# Altium footprint library 曾宪阳PCB库.PcbLib: 142 footprints (part 2 of 9)
Each footprint in its own frame and in the unit in brackets; x right, y up, seen from the top. Pads: shape width x height; smd on the part's side, far side on the other; paste and mask are expansions set on the pad; w line width, h text height; cw(c..) or ccw(c..) is an arc to the next point about the centre after c.
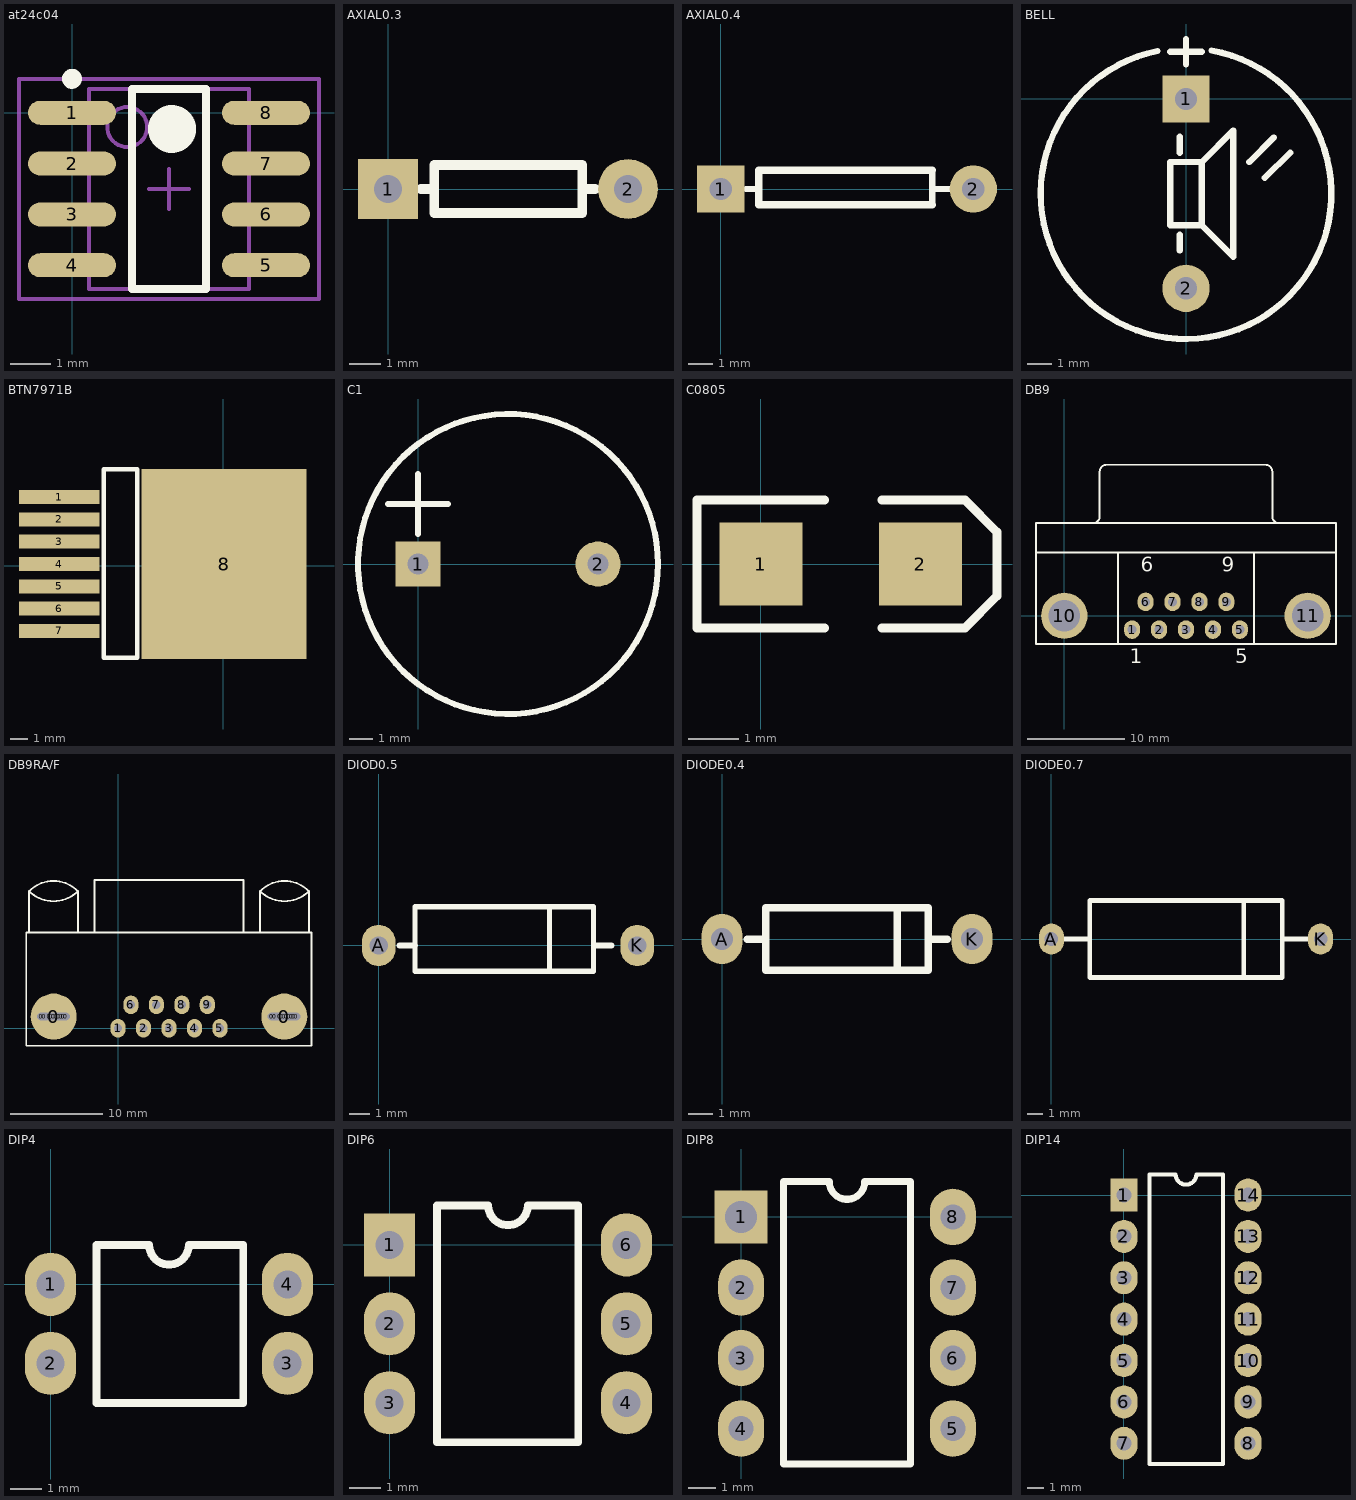
[diagram p1: the footprints below, top view; thin cyan lines are the x and y axes]

## at24c04 [mm] "SOP, 8-Leads, Body 5.0x4.0mm (max), Pitch 1.27mm, IPC Medium Density"
height 1.75
pads (8):
  oval 2.2x0.6 smd: 1(0,0) 2(0,-1.27) 3(0,-2.54) 4(0,-3.81) 5(4.85,-3.81) 6(4.85,-2.54) 7(4.85,-1.27) 8(4.85,0)
Top Overlay:
  circle w0.25: c0,0.85 r0.125
  circle w0.6: c2.5,-0.405 r0.3
  lines w0.2: 1.5,-4.405 1.5,0.595 3.35,0.595 3.35,-4.405 1.5,-4.405
Mechanical 13:
  circle w0.1: c1.38,-0.355 r0.5
  lines w0.1: 0.43,-4.405 0.43,0.595 4.42,0.595 4.42,-4.405 0.43,-4.405
Mechanical 15:
  lines w0.1: 1.925,-1.905 2.925,-1.905 ; 2.425,-2.405 2.425,-1.405 ; -1.325,-4.655 -1.325,0.845 6.175,0.845 6.175,-4.655 -1.325,-4.655
3D body: height 1.75, standoff 0.1, extent 0.43,-4.405 4.42,0.595

## AXIAL0.3 [mm]
pads (2):
  rect 1.905x1.905 hole 0.9: 1(0,0)
  round 1.905 hole 0.9: 2(7.62,0)
Top Overlay:
  lines w0.305: 1.041,0 1.27,0 ; 6.198,0 6.172,0.025 6.172,0.762 1.473,0.762 1.473,-0.762 6.172,-0.762 6.172,0 6.579,0

## AXIAL0.4 [mm]
pads (2):
  rect 1.905x1.905 hole 0.9: 1(0,0)
  round 1.905 hole 0.9: 2(10.16,0)
Top Overlay:
  lines w0.254: 1.016,0 1.524,0 ; 8.509,-0.635 8.509,0.762 ; 8.509,0 9.271,0
  lines w0.305: 8.509,-0.635 1.524,-0.635 1.524,0.762 8.509,0.762

## BELL [mm]
pads (2):
  rect 1.905x1.905 hole 0.9: 1(0,0)
  round 1.905 hole 0.9: 2(0,-7.62)
Top Overlay:
  lines w0.254: -1.147,1.926 ccw(c0,-3.81) 1.024,1.95 ; -0.635,1.905 0.635,1.905 ; -0.254,-6.096 -0.254,-5.461 ; -0.254,-2.159 -0.254,-1.524 ; 0,1.397 0,2.413 ; 2.54,-2.54 3.531,-1.549 ; 3.175,-3.175 4.191,-2.159 ; 0.635,-5.08 -0.635,-5.08 -0.635,-2.54 0.635,-2.54 ; 0.635,-5.08 0.635,-2.54 ; 0.635,-5.08 1.905,-6.35 1.905,-1.27 0.635,-2.54

## BTN7971B [mm] "驱动芯片"
pads (8):
  rect 4.6x0.8 smd: 1(-9.34,3.9) 2(-9.34,2.63) 3(-9.34,1.36) 4(-9.34,0.09) 5(-9.34,-1.18) 6(-9.34,-2.45) 7(-9.34,-3.72)
  rect 9.4x10.8 smd: 8(0.05,0.09)
Top Overlay:
  lines w0.254: -6.8,-5.26 -4.9,-5.26 -4.9,5.49 -6.8,5.49 -6.8,-5.26

## C1 [mm]
pads (2):
  rect 1.905x1.905 hole 0.9: 1(0,0)
  round 1.905 hole 0.9: 2(7.62,0)
Top Overlay:
  circle w0.254: c3.81,0 r6.35
  lines w0.254: -1.27,2.54 1.27,2.54 ; 0,1.27 0,3.81

## C0805 [mil]
height 53.15
pads (2):
  rect 65x65 smd: 1(0,0) 2(125,0)
Top Overlay:
  lines w7: 50,-50 -50,-50 -50,50 50,50 ; 95,-50 160,-50 185,-25 185,25 160,50 95,50

## DB9 [mm]
pads (11):
  oval 1.651x1.905 hole 0.9: 1(6.955,-1.42) 2(9.725,-1.42) 3(12.495,-1.42) 4(15.265,-1.42) 5(18.035,-1.42) 6(8.34,1.42) 7(11.11,1.42) 8(13.88,1.42) 9(16.65,1.42)
  round 4.76 hole 3.26: 10(0,0) 11(24.99,0)
Top Overlay:
  lines w0.2: -2.905,6.5 27.895,6.5 ; 2.935,9.505 ccw(c2.935,10.2) 3.63,10.2 3.63,14.8 ; 3.635,14.805 cw(c4.33,14.805) 4.33,15.5 20.66,15.5 cw(c20.66,14.805) 21.355,14.805 ; 5.495,-2.9 5.495,6.5 ; 19.495,-2.9 19.495,6.5 ; 21.36,14.8 21.36,10.2 ccw(c22.055,10.2) 22.055,9.505 ; -2.905,-2.9 27.895,-2.9 27.895,9.5 -2.905,9.5 -2.905,-2.9
  text "6" at 7.84,4.525 h1.5
  text "9" at 16.15,4.525 h1.5
  text "5" at 17.535,-4.875 h1.5
  text "1" at 6.705,-4.875 h1.5

## DB9RA/F [mm]
pads (33):
  round 0.9 hole 0.9: 0(-8.335,1.27) 0(-8.035,1.27) 0(-7.485,1.27) 0(-7.235,1.27) 0(-6.985,1.27) 0(-6.735,1.27) 0(-6.435,1.27) 0(-6.185,1.27) 0(-5.935,1.27) 0(-5.685,1.27) 0(16.709,1.27) 0(17.009,1.27) 0(17.559,1.27) 0(17.809,1.27) 0(18.059,1.27) 0(18.309,1.27) 0(18.609,1.27) 0(18.859,1.27) 0(19.109,1.27) 0(19.359,1.27) 14(-7.785,1.27) 14(17.259,1.27)
  round 5 hole 0.9: 0(-6.985,1.27) 0(18.059,1.27)
  oval 1.651x2.032 hole 0.9: 1(0,0) 2(2.769,0) 3(5.537,0) 4(8.306,0) 5(11.074,0) 6(1.397,2.54) 7(4.166,2.54) 8(6.934,2.54) 9(9.703,2.54)
Top Overlay:
  lines w0.2: -9.963,-1.905 -9.963,10.395 21.037,10.395 ; -9.66,10.395 -9.66,14.895 ; -4.36,10.395 -4.36,14.895 ; -2.56,10.395 -2.56,16.095 13.64,16.095 13.64,10.395 ; 15.434,10.395 15.434,14.895 ; 20.734,10.395 20.734,14.895 ; -9.66,14.895 ccw(c-7.01,17.545) -4.36,14.895 ; -9.66,14.895 cw(c-7.01,12.245) -4.36,14.895 ; 15.434,14.895 ccw(c18.084,17.545) 20.734,14.895 ; 15.434,14.895 cw(c18.084,12.245) 20.734,14.895
  lines w0.203: -9.963,-1.905 21.037,-1.905 21.037,10.395

## DIOD0.5 [mil]
pads (2):
  oval 65x80 hole 35.43: A(0,0) K(500,0)
Top Overlay:
  lines w10: 330,-50 330,75 ; 70,-50 70,75 415,75 415,-50 70,-50
  lines w12: 40,0 70,0 ; 420,0 450,0

## DIODE0.4 [mil]
pads (2):
  oval 65x80 hole 35.43: A(0,0) K(400,0)
Top Overlay:
  lines w12: 40,0 70,0 ; 280,-50 280,50 ; 330,0 360,0 ; 70,-50 330,-50 330,50 70,50 70,-50

## DIODE0.7 [mil]
pads (2):
  oval 65x80 hole 35.43: A(0,0) K(700,0)
Top Overlay:
  lines w12: 0,0 100,0 ; 500,-100 500,100 ; 600,0 700,0 ; 100,-100 100,100 600,100 600,-100 100,-100

## DIP4 [mil]
pads (4):
  oval 65x80 hole 35.43: 1(0,0) 2(0,-100) 3(300,-100) 4(300,0)
Top Overlay:
  lines w10: 58,-150 58,50 125,50 ccw(c150,50) 175,50 244,50 244,-150 58,-150

## DIP6 [mil]
pads (6):
  rect 65x80 hole 35.43: 1(0,0)
  oval 65x80 hole 35.43: 2(0,-100) 3(0,-200) 4(300,-200) 5(300,-100) 6(300,0)
Top Overlay:
  lines w10: 60,-250 239,-250 239,50 175,50 cw(c150,50) 125,50 60,50 60,-250

## DIP8 [mil]
pads (8):
  rect 75x75 hole 45: 1(0,0)
  oval 65x80 hole 35.43: 2(0,-100) 3(0,-200) 4(0,-300) 5(300,-300) 6(300,-200) 7(300,-100) 8(300,0)
Top Overlay:
  lines w10: 60,-350 60,50 125,50 ccw(c150,50) 175,50 240,50 240,-350 60,-350

## DIP14 [mil]
pads (14):
  rect 65x80 hole 35.43: 1(0,0)
  oval 65x80 hole 35.43: 2(0,-100) 3(0,-200) 4(0,-300) 5(0,-400) 6(0,-500) 7(0,-600) 8(300,-600) 9(300,-500) 10(300,-400) 11(300,-300) 12(300,-200) 13(300,-100) 14(300,0)
Top Overlay:
  lines w10: 62,-650 239,-650 239,50 175,50 cw(c150,50) 125,50 62,50 62,-650